# Altium schematic symbol library NE5532+TDA2030A.SchLib: 6 symbols
Pins are listed as number, name and electrical type; pins without a type are passive.

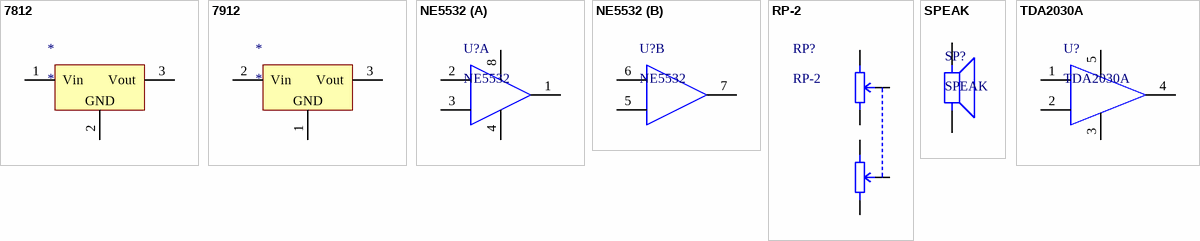
[diagram p0: symbols 7812 to TDA2030A]

## 7812
designator *
pins: 1 Vin, 2 GND, 3 Vout

## 7912
designator *
pins: 1 GND, 2 Vin, 3 Vout

## NE5532
designator U?
part A pins: 1 OUT1, 2 IN-, 3 IN+, 4 VCC-, 8 VCC+
part B pins: 5 IN+, 6 IN-, 7 OUT2

## RP-2
designator RP?
pins: 1, 2, 3, 4, 5, 6

## SPEAK
designator SP?
pins: 1, 2

## TDA2030A
designator U?
pins: 1, 2, 3, 4, 5